# Altium schematic symbol library Capacitor.Schlib: 12 symbols
Pins are listed as number, name and electrical type; pins without a type are passive.

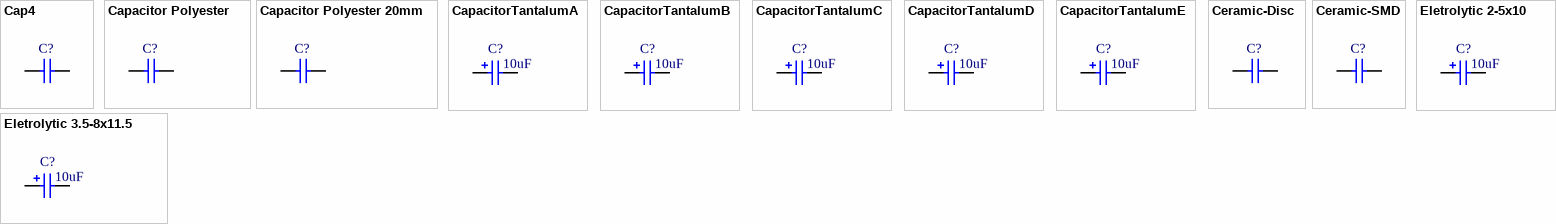
[diagram p0: symbols Cap4 to Eletrolytic 3.5-8x11.5]

## Cap4
designator C?, comment 100pF  (value not drawn)
Capacitor (Semiconductor SIM Model)
pins: 1, 2

## Capacitor Polyester
designator C?, comment 100pF  (value not drawn)
Capacitor (Semiconductor SIM Model)
footprint RAD-0.5
pins: 1, 2

## Capacitor Polyester 20mm
designator C?, comment 100pF  (value not drawn)
Capacitor (Semiconductor SIM Model)
footprint RAD-20mm
pins: 1, 2

## CapacitorTantalumA
designator C?, comment 10uF
Solid Tantalum Chip Capacitor
footprint CASE_A (Chip Capacitor; Body 2.54 x 1.27 mm (LxW typ))
pins: 1, 2
1 alternate drawing of the same symbol

## CapacitorTantalumB
designator C?, comment 10uF
Solid Tantalum Chip Capacitor
footprint CASE_B (Chip Capacitor; Body 3.81 x 1.27 mm (LxW typ))
pins: 1, 2
1 alternate drawing of the same symbol

## CapacitorTantalumC
designator C?, comment 10uF
Solid Tantalum Chip Capacitor
footprint CASE_C (Chip Capacitor; Body 5.08 x 1.27 mm (LxW typ))
pins: 1, 2
1 alternate drawing of the same symbol

## CapacitorTantalumD
designator C?, comment 10uF
Solid Tantalum Chip Capacitor
footprint CASE_D (Chip Capacitor; Body 3.81 x 2.54 mm (LxW typ))
pins: 1, 2
1 alternate drawing of the same symbol

## CapacitorTantalumE
designator C?, comment 10uF
Solid Tantalum Chip Capacitor
footprint CASE_E (Chip Capacitor; Body 5.08 x 2.54 mm (LxW typ))
pins: 1, 2
1 alternate drawing of the same symbol

## Ceramic-Disc
designator C?, comment 100pF  (value not drawn)
Capacitor (Semiconductor SIM Model)
footprint RAD-0.2
pins: 1, 2

## Ceramic-SMD
designator C?, comment 100pF  (value not drawn)
Capacitor (Semiconductor SIM Model)
footprint 0603C (Chip Capacitor; Body 1.6 x 0.8 mm (LxW typ))
pins: 1, 2

## Eletrolytic 2-5x10
designator C?, comment 10uF
Solid Aluminum Capacitor with Organic Semiconductor Electrolyte: 3.3uF, 20V, Bulk Pack
footprint CAPPR2-5x5 (Capacitor, Electrolytic, Radial; Body 5 x 5 mm (Dia.xH typ); Pin Spacing 2 mm (typ))
pins: 1, 2
1 alternate drawing of the same symbol

## Eletrolytic 3.5-8x11.5
designator C?, comment 10uF
Solid Aluminum Capacitor with Organic Semiconductor Electrolyte: 3.3uF, 20V, Bulk Pack
footprint CAPPR3.5-8x11.5 (Capacitor, Electrolytic, Radial; Body 8 x 11.5 mm (Dia.xH typ); Pin Spacing 3.5 mm (typ))
pins: 1, 2
1 alternate drawing of the same symbol